# Altium footprint library BarometerLib.PcbLib: 1 footprints
Each footprint in its own frame and in the unit in brackets; x right, y up, seen from the top. Pads: shape width x height; smd on the part's side, far side on the other; paste and mask are expansions set on the pad; w line width, h text height; cw(c..) or ccw(c..) is an arc to the next point about the centre after c.
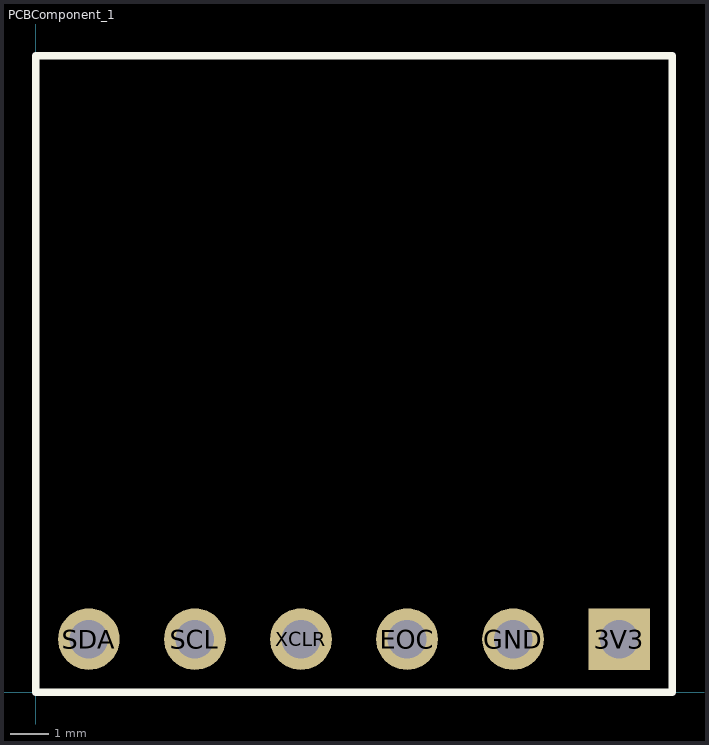
[diagram p0: the footprint, top view; thin cyan lines are the x and y axes]

## PCBComponent_1 [mm]
pads (6):
  rect 1.6x1.6 smd: 3V3(15.125,1.375)
  round 1.6 smd: EOC(9.625,1.375) GND(12.375,1.375) SCL(4.125,1.375) SDA(1.375,1.375) XCLR(6.875,1.375)
via 15.125,1.375 diameter 1.27 hole 1
via 12.375,1.375 diameter 1.27 hole 1
via 9.625,1.375 diameter 1.27 hole 1
via 6.875,1.375 diameter 1.27 hole 1
via 4.125,1.375 diameter 1.27 hole 1
via 1.375,1.375 diameter 1.27 hole 1
Top Overlay:
  lines w0.2: 0,0 0,16.5 16.5,16.5 16.5,0 0,0